# Altium footprint library PCB - IND - WE-CBF_0603.PCBLIB: 1 footprints
Each footprint in its own frame and in the unit in brackets; x right, y up, seen from the top. Pads: shape width x height; smd on the part's side, far side on the other; paste and mask are expansions set on the pad; w line width, h text height; cw(c..) or ccw(c..) is an arc to the next point about the centre after c.
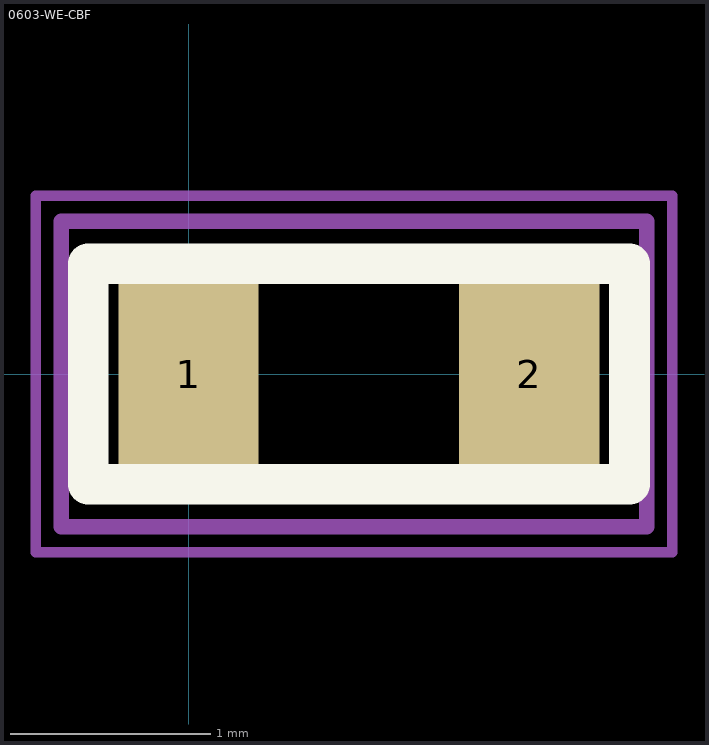
[diagram p0: the footprint, top view; thin cyan lines are the x and y axes]

## 0603-WE-CBF [mm] "SMD 0603 size (Imperial)"
height 10.3
pads (2):
  rect 0.7x0.9 smd: 1(0,0) 2(1.7,0)
Top Overlay:
  lines w0.203: -0.5,-0.55 2.2,-0.55 2.2,0.55 -0.5,0.55 -0.5,0 -0.5,-0.55
Top Assembly:
  lines w0.076: -0.635,-0.762 2.286,-0.762 2.286,0.762 -0.635,0.762 -0.635,-0.762
  text ".Designator" at -0.762,1.27 h1.52
Top Courtyard (Mech7):
  lines w0.051: -0.762,-0.889 2.413,-0.889 2.413,0.889 -0.762,0.889 -0.762,-0.889
3D body "WE-CBF_0603_CBF.stp": height 0.8, standoff 0, extent 0.064,-0.4 1.664,0.4